# EAGLE library part MIC5320 (library microbuilder)
MIC5320 - Dual 150mA ULDO Linear Regulator Ultra-low 35mV dropout at 150mA. 3.3V/1.8V SOT23-6 (Manufacturer Part #: MIC5320-SGYD6) Digikey - 576-1658-1-ND
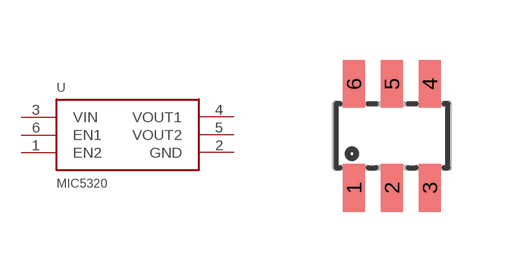
[diagram p36: symbol with the pads of SOT23-6; footprint SOT23-6]

Designator prefix U

## MIC5320  [SOT23-6]
1  EN2
2  GND
3  VIN
4  VOUT1
5  VOUT2
6  EN1

## Footprint SOT23-6 (pad centres in mm)
Small Outline Transistor - 6 Pin
smd 0.55 x 1.2: 1 -0.95,-1.3; 2 0,-1.3; 3 0.95,-1.3; 4 0.95,1.3; 5 0,1.3; 6 -0.95,1.3